# Altium schematic symbol library UI_BUTTON_LED.SchLib: 6 symbols
Pins are listed as number, name and electrical type; pins without a type are passive.

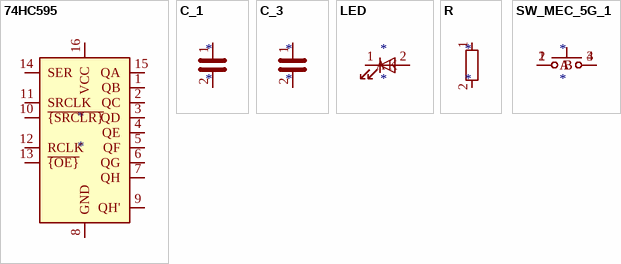
[diagram p0: symbols 74HC595 to SW_MEC_5G_1]

## 74HC595
designator *
pins: 1 QB, 2 QC, 3 QD, 4 QE, 5 QF, 6 QG, 7 QH, 8 GND, 9 QH', 10 ~{{SRCLR}}, 11 SRCLK, 12 RCLK, 13 ~{{OE}}, 14 SER, 15 QA, 16 VCC

## C_1
designator *
pins: 1, 2

## C_3
designator *
pins: 1, 2

## LED
designator *
pins: 1 K, 2 A

## R
designator *
pins: 1, 2

## SW_MEC_5G_1
designator *
pins: 1 A, 2 A, 3 B, 4 B